# EAGLE library part 74AHC157 (library ARVP)
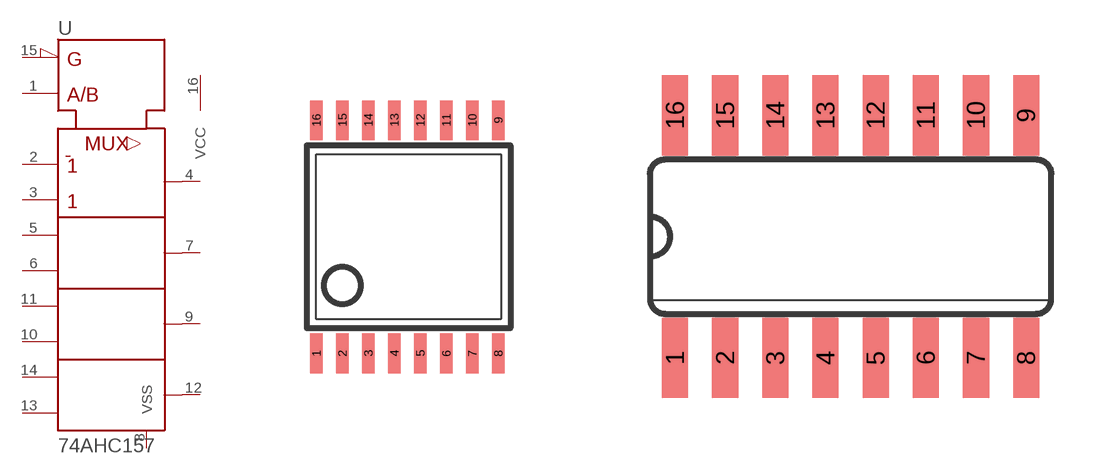
[diagram p14: symbol with the pads of TSSOP-16; footprints TSSOP-16, SO16]

Designator prefix -

## 74AHC157TSSOP16  [TSSOP-16]
1  !A/B  in
2  1A  in
3  1B  in
4  1Y  out
5  2A  in
6  2B  in
7  2Y  out
8  VSS  pwr
9  3Y  out
10  3B  in
11  3A  in
12  4Y  out
13  4B  in
14  4A  in
15  !G  in
16  VCC  pwr

## 74AHC157SO16  [SO16]
1  !A/B  in
2  1A  in
3  1B  in
4  1Y  out
5  2A  in
6  2B  in
7  2Y  out
8  VSS  pwr
9  3Y  out
10  3B  in
11  3A  in
12  4A  in
13  4B  in
14  4Y  out
15  !G  in
16  VCC  pwr

## Footprint TSSOP-16 (pad centres in mm)
smd 0.305 x 0.991: 1 -2.305,-2.918; 2 -1.655,-2.918; 3 -1.005,-2.918; 4 -0.355,-2.918; 5 0.295,-2.918; 6 0.945,-2.918; 7 1.595,-2.918; 8 2.245,-2.918; 9 2.245,2.918; 10 1.595,2.918; 11 0.945,2.918; 12 0.295,2.918; 13 -0.355,2.918; 14 -1.005,2.918; 15 -1.655,2.918; 16 -2.305,2.918

## Footprint SO16 (pad centres in mm)
smd 0.66 x 2.032: 1 -4.445,-3.073; 2 -3.175,-3.073; 3 -1.905,-3.073; 4 -0.635,-3.073; 5 0.635,-3.073; 6 1.905,-3.073; 7 3.175,-3.073; 8 4.445,-3.073; 9 4.445,3.073; 10 3.175,3.073; 11 1.905,3.073; 12 0.635,3.073; 13 -0.635,3.073; 14 -1.905,3.073; 15 -3.175,3.073; 16 -4.445,3.073